# Altium footprint library WR-TBL_Pluggable Connector_5.00mm.PcbLib: 148 footprints (part 10 of 10)
Each footprint in its own frame and in the unit in brackets; x right, y up, seen from the top. Pads: shape width x height; smd on the part's side, far side on the other; paste and mask are expansions set on the pad; w line width, h text height; cw(c..) or ccw(c..) is an arc to the next point about the centre after c.
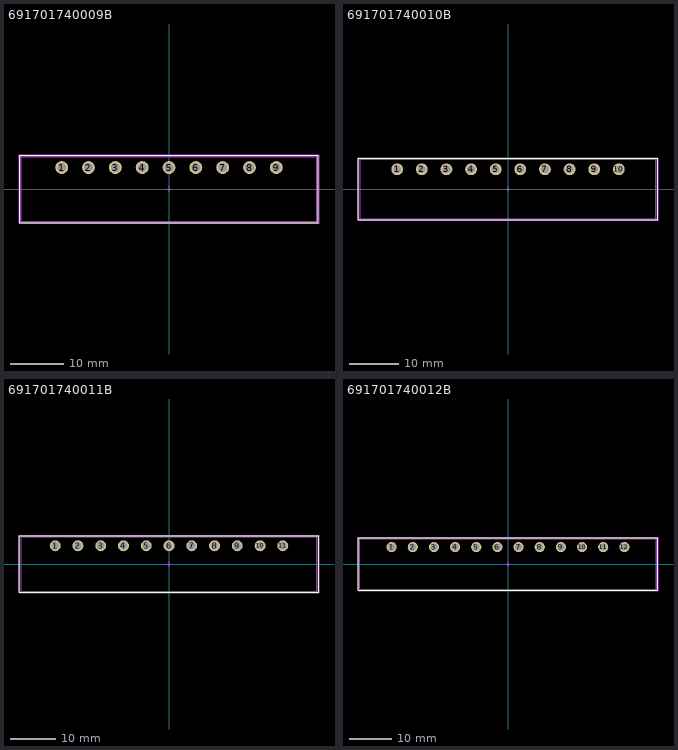
[diagram p9: the footprints below, top view; thin cyan lines are the x and y axes]

## 691701740009B [mm] "5.00 mm Closed Horizontal PCB Header THR Type with Flanges, 09p"
height 8.5
pads (9):
  round 2.4 hole 1.6: 1(-20,4) 2(-15,4) 3(-10,4) 4(-5,4) 5(0,4) 6(5,4) 7(10,4) 8(15,4) 9(20,4)
Top Overlay:
  lines w0.2: -27.85,-6.25 -27.85,6.25 27.85,6.25 27.85,-6.25 -27.85,-6.25
Top Paste:
  region: 3,5.85 7,5.85 7,2.15 3,2.15
  region: -22,5.85 -18,5.85 -18,2.15 -22,2.15
  region: -17,5.85 -13,5.85 -13,2.15 -17,2.15
  region: -12,5.85 -8,5.85 -8,2.15 -12,2.15
  region: -7,5.85 -3,5.85 -3,2.15 -7,2.15
  region: -2,5.85 2,5.85 2,2.15 -2,2.15
  region: 8,5.85 12,5.85 12,2.15 8,2.15
  region: 13,5.85 17,5.85 17,2.15 13,2.15
  region: 18,5.85 22,5.85 22,2.15 18,2.15
Assembly Notes:
  text "Stencil thickness : 120 μm" at -5.156,-7.101 h1
Top Assembly:
  lines w0.1: -27.75,-6.15 -27.75,6.15 27.75,6.15 27.75,-6.15 -27.75,-6.15
Top Designator:
  text ".Designator" at -3.647,-0.357 h1
Top 3D Body:
  lines w0.1: -27.5,-6 27.5,-6 27.5,6 -27.5,6 -27.5,-6
Top Courtyard:
  lines w0.05: -27.95,-6.35 -27.95,6.35 27.95,6.35 27.95,-6.35 -27.95,-6.35
Top Component Center:
  lines w0.1: -0.5,0 0.5,0 ; 0,-0.5 0,0.5
3D body "691701740009B.stp": height 8.5, standoff -2.6, extent -27.5,-6.01 27.5,6

## 691701740010B [mm] "5.00 mm Closed Horizontal PCB Header THR Type with Flanges, 10p"
height 8.5
pads (10):
  round 2.4 hole 1.6: 1(-22.5,4) 2(-17.5,4) 3(-12.5,4) 4(-7.5,4) 5(-2.5,4) 6(2.5,4) 7(7.5,4) 8(12.5,4) 9(17.5,4) 10(22.5,4)
Top Overlay:
  lines w0.2: -30.35,-6.25 -30.35,6.25 30.35,6.25 30.35,-6.25 -30.35,-6.25
Top Paste:
  region: 20.5,5.85 24.5,5.85 24.5,2.15 20.5,2.15
  region: 15.5,5.85 19.5,5.85 19.5,2.15 15.5,2.15
  region: 10.5,5.85 14.5,5.85 14.5,2.15 10.5,2.15
  region: 5.5,5.85 9.5,5.85 9.5,2.15 5.5,2.15
  region: -4.5,5.85 -0.5,5.85 -0.5,2.15 -4.5,2.15
  region: -9.5,5.85 -5.5,5.85 -5.5,2.15 -9.5,2.15
  region: -14.5,5.85 -10.5,5.85 -10.5,2.15 -14.5,2.15
  region: -19.5,5.85 -15.5,5.85 -15.5,2.15 -19.5,2.15
  region: -24.5,5.85 -20.5,5.85 -20.5,2.15 -24.5,2.15
  region: 0.5,5.85 4.5,5.85 4.5,2.15 0.5,2.15
Assembly Notes:
  text "Stencil thickness : 120 μm" at -5.156,-7.101 h1
Top Assembly:
  lines w0.1: -30.25,-6.15 -30.25,6.15 30.25,6.15 30.25,-6.15 -30.25,-6.15
Top Designator:
  text ".Designator" at -3.647,-0.357 h1
Top 3D Body:
  lines w0.1: -30,-6 30,-6 30,6 -30,6 -30,-6
Top Courtyard:
  lines w0.05: -30.45,-6.35 -30.45,6.35 30.45,6.35 30.45,-6.35 -30.45,-6.35
Top Component Center:
  lines w0.1: -0.5,0 0.5,0 ; 0,-0.5 0,0.5
3D body "691701740010B.stp": height 8.5, standoff -2.6, extent -30,-6.01 30,6

## 691701740011B [mm] "5.00 mm Closed Horizontal PCB Header THR Type with Flanges, 11p"
height 8.5
pads (11):
  round 2.4 hole 1.6: 1(-25,4) 2(-20,4) 3(-15,4) 4(-10,4) 5(-5,4) 6(0,4) 7(5,4) 8(10,4) 9(15,4) 10(20,4) 11(25,4)
Top Overlay:
  lines w0.2: -32.85,-6.25 -32.85,6.25 32.85,6.25 32.85,-6.25 -32.85,-6.25
Top Paste:
  region: 23,5.85 27,5.85 27,2.15 23,2.15
  region: 18,5.85 22,5.85 22,2.15 18,2.15
  region: 13,5.85 17,5.85 17,2.15 13,2.15
  region: 8,5.85 12,5.85 12,2.15 8,2.15
  region: 3,5.85 7,5.85 7,2.15 3,2.15
  region: -7,5.85 -3,5.85 -3,2.15 -7,2.15
  region: -12,5.85 -8,5.85 -8,2.15 -12,2.15
  region: -17,5.85 -13,5.85 -13,2.15 -17,2.15
  region: -22,5.85 -18,5.85 -18,2.15 -22,2.15
  region: -27,5.85 -23,5.85 -23,2.15 -27,2.15
  region: -2,5.85 2,5.85 2,2.15 -2,2.15
Assembly Notes:
  text "Stencil thickness : 120 μm" at -5.156,-7.101 h1
Top Assembly:
  lines w0.1: -32.75,-6.15 -32.75,6.15 32.75,6.15 32.75,-6.15 -32.75,-6.15
Top Designator:
  text ".Designator" at -3.647,-0.357 h1
Top 3D Body:
  lines w0.1: -32.5,-6 32.5,-6 32.5,6 -32.5,6 -32.5,-6
Top Courtyard:
  lines w0.05: -32.95,-6.35 -32.95,6.35 32.95,6.35 32.95,-6.35 -32.95,-6.35
Top Component Center:
  lines w0.1: -0.5,0 0.5,0 ; 0,-0.5 0,0.5
3D body "691701740011B.stp": height 8.5, standoff -2.6, extent -32.5,-6.01 32.5,6

## 691701740012B [mm] "5.00 mm Closed Horizontal PCB Header THR Type with Flanges, 12p"
height 8.5
pads (12):
  round 2.4 hole 1.6: 1(-27.5,4) 2(-22.5,4) 3(-17.5,4) 4(-12.5,4) 5(-7.5,4) 6(-2.5,4) 7(2.5,4) 8(7.5,4) 9(12.5,4) 10(17.5,4) 11(22.5,4) 12(27.5,4)
Top Overlay:
  lines w0.2: -35.35,-6.25 -35.35,6.25 35.35,6.25 35.35,-6.25 -35.35,-6.25
Top Paste:
  region: -4.5,5.85 -0.5,5.85 -0.5,2.15 -4.5,2.15
  region: -29.5,5.85 -25.5,5.85 -25.5,2.15 -29.5,2.15
  region: -24.5,5.85 -20.5,5.85 -20.5,2.15 -24.5,2.15
  region: -19.5,5.85 -15.5,5.85 -15.5,2.15 -19.5,2.15
  region: -14.5,5.85 -10.5,5.85 -10.5,2.15 -14.5,2.15
  region: -9.5,5.85 -5.5,5.85 -5.5,2.15 -9.5,2.15
  region: 0.5,5.85 4.5,5.85 4.5,2.15 0.5,2.15
  region: 5.5,5.85 9.5,5.85 9.5,2.15 5.5,2.15
  region: 10.5,5.85 14.5,5.85 14.5,2.15 10.5,2.15
  region: 15.5,5.85 19.5,5.85 19.5,2.15 15.5,2.15
  region: 20.5,5.85 24.5,5.85 24.5,2.15 20.5,2.15
  region: 25.5,5.85 29.5,5.85 29.5,2.15 25.5,2.15
Assembly Notes:
  text "Stencil thickness : 120 μm" at -5.156,-7.101 h1
Top Assembly:
  lines w0.1: -35.25,-6.15 -35.25,6.15 35.25,6.15 35.25,-6.15 -35.25,-6.15
Top Designator:
  text ".Designator" at -3.647,-0.357 h1
Top 3D Body:
  lines w0.1: -35,-6 35,-6 35,6 -35,6 -35,-6
Top Courtyard:
  lines w0.05: -35.45,-6.35 -35.45,6.35 35.45,6.35 35.45,-6.35 -35.45,-6.35
Top Component Center:
  lines w0.1: -0.5,0 0.5,0 ; 0,-0.5 0,0.5
3D body "691701740012B.stp": height 8.5, standoff -2.6, extent -35,-6.01 35,6